# Altium integrated library 1N4148W.IntLib: 1 symbol
Pins are listed as number, name and electrical type; pins without a type are passive.

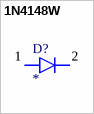
[diagram p0: symbol 1N4148W]

## 1N4148W
designator D?
DIODE, HIGH SPEED, SOD-123F; Diode Type:Small Signal; Voltage, Vrrm:75V; Current, If AV:10mA; Voltage, Vf Max:1V; Temperature, Tj Max:150Â°C; Termination Type:SMD; Case Style:SOD-123F; No. of Pins:2; Current, If Vf:100mA; Current, Ifrm:300mA; Current, Ifs Max:2A; Power, Ptot:400mW; Temperature, Tj Min:-65Â°C; Time, trr Max:4ns; MP: 1N4148W; MF: Micro Commercial; Price: None; Availability: In Stock; Package: SOD-123 Multicomp; SnapEDA_Link: https://www.snapeda.com/parts/1N4148W/Micro%20Commercial/view-part/134617/?ref=snap; Check_prices: https://www.snapeda.com/parts/1N4148W/Micro%20Commercial/view-part/134617/?ref=eda; Value: *
footprint SOD523F
pins: 1 A1, 2 C1